# Altium schematic symbol library SCH - POWER - CONTROLLER - AD MAX20084.Schlib: 1 symbol
Pins are listed as number, name and electrical type; pins without a type are passive.

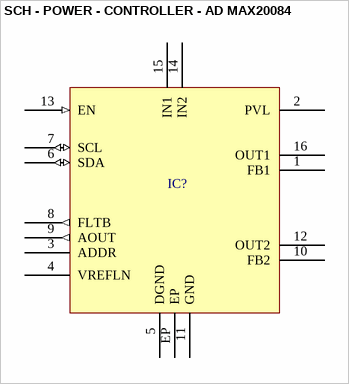
[diagram p0: symbol SCH - POWER - CONTROLLER - AD MAX20084]

## SCH - POWER - CONTROLLER - AD MAX20084
designator IC?
footprint QFN65P400X400X80-17N
pins: 1 FB1, 2 PVL, 3 ADDR, 4 VREFLN, 5 DGND (power), 6 SDA (io), 7 SCL (io), 8 FLTB (out), 9 AOUT (out), 10 FB2, 11 GND (power), 12 OUT2 (power), 13 EN (in), 14 IN2 (power), 15 IN1 (power), 16 OUT1 (power), EP (power)